# Altium schematic symbol library Schlib1.SchLib: 7 symbols
Pins are listed as number, name and electrical type; pins without a type are passive.

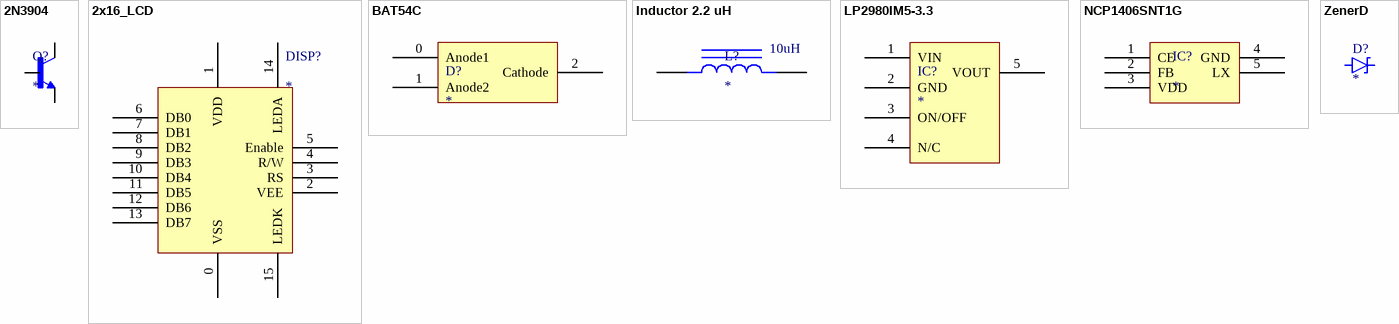
[diagram p0: symbols 2N3904 to ZenerD]

## 2N3904
designator Q?
footprint 2N3904
pins: 1 E, 2 B, 3 C

## 2x16_LCD
designator DISP?
footprint 2x16_LCD
pins: 0 VSS, 1 VDD, 2 VEE, 3 RS, 4 R/W, 5 Enable, 6 DB0, 7 DB1, 8 DB2, 9 DB3, 10 DB4, 11 DB5, 12 DB6, 13 DB7, 14 LEDA, 15 LEDK

## BAT54C
designator D?
footprint BAT54C
pins: 0 Anode1, 1 Anode2, 2 Cathode

## Inductor 2.2 uH
designator L?
footprint Inductor
pins: 0 1, 1 2
text: 10uH

## LP2980IM5-3.3
designator IC?
footprint LP2980IM5-3.3
pins: 1 VIN, 2 GND, 3 ON/OFF, 4 N/C, 5 VOUT

## NCP1406SNT1G
designator IC?
footprint NCP1406SNT1G
pins: 1 CE, 2 FB, 3 VDD, 4 GND, 5 LX

## ZenerD
designator D?
footprint ZenerD
pins: A, C